# EAGLE library part OPA2822 (library OP_AMP)
The OPA2822 offers very low 2.0nV/√Hz input noise in a wideband, unity-gain stable, voltage-feedback architecture. Intended for xDSL receiver applications, the OPA2822 also supports this low input noise with exceptionally low harmonic distortion, particularly in differential configurations. Adequate output current is provided to drive the potentially heavy load of a passive filter between this amplifier and the codec. Harmonic distortion for a 2VPP differential output operating from +5V to +12V supplies is ≤ –100dBc through 1MHz input frequencies. Operating on a low 4.8mA/ch supply current, the OPA2822 can satisfy all xDSL receiver requirements over a wide range of possible supply voltages—from a single +5V condition, to ±5V, up to a single +12V design. General-purpose applications on a single +5V supply will benefit from the high input and output voltage swing available on this reduced supply voltage. Low-cost precision integrators for PLLs will also benefit from the low voltage noise and offset voltage. Baseband I/Q receiver channels can achieve almost perfect channel match with noise and distortion to support signals through 5MHz with > 14-bit dynamic range.
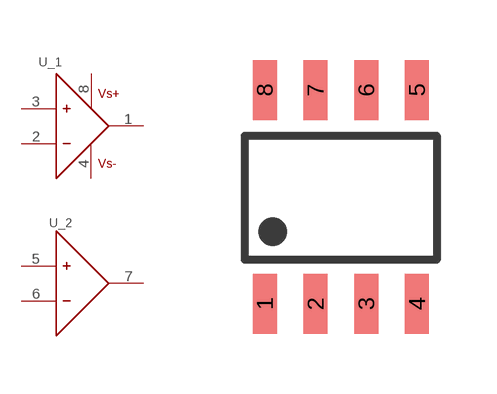
[diagram p2: symbol with the pads of SOIC-8; footprint SOIC-8]

Designator prefix U; gates _1=OP_AMP_PWR _2=OP_AMP

## OPA2822U  [SOIC-8]
1  _1:OUT
2  _1:IN-
3  _1:IN+
4  _1:VS-
5  _2:IN+
6  _2:IN-
7  _2:OUT
8  _1:VS+

## Footprint SOIC-8 (pad centres in mm)
smd 0.6 x 1.5: 1 0,0; 2 1.27,0; 3 2.54,0; 4 3.81,0; 5 3.81,5.35; 6 2.54,5.35; 7 1.27,5.35; 8 0,5.35